# EAGLE library part 532955-3 (library con-amp)
PCB Connector
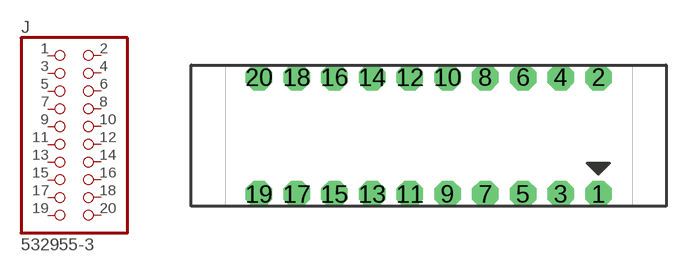
[diagram p127: symbol with the pads of 532955-3; footprint 532955-3]

Designator prefix J

## 532955-3  [532955-3]
1  1  pas
2  2  pas
3  3  pas
4  4  pas
5  5  pas
6  6  pas
7  7  pas
8  8  pas
9  9  pas
10  10  pas
11  11  pas
12  12  pas
13  13  pas
14  14  pas
15  15  pas
16  16  pas
17  17  pas
18  18  pas
19  19  pas
20  20  pas

## Footprint 532955-3 (pad centres in mm)
PCB Connector 20 Pin Female Receptacal, 2x10, 0.1" spacing
drill 1.016 pad 1.778 octagon: 1 11.43,-3.937; 2 11.43,3.937; 3 8.89,-3.937; 4 8.89,3.937; 5 6.35,-3.937; 6 6.35,3.937; 7 3.81,-3.937; 8 3.81,3.937; 9 1.27,-3.937; 10 1.27,3.937; 11 -1.27,-3.937; 12 -1.27,3.937; 13 -3.81,-3.937; 14 -3.81,3.937; 15 -6.35,-3.937; 16 -6.35,3.937; 17 -8.89,-3.937; 18 -8.89,3.937; 19 -11.43,-3.937; 20 -11.43,3.937